# EAGLE library part IR2110 (library CaliBeta-Transistores)
Driver para MOSFET de potencia 500V-2A Datasheet <https://drive.google.com/file/d/0BzaKjvCRihgbWVVDbEhIc0hnSkE/view>
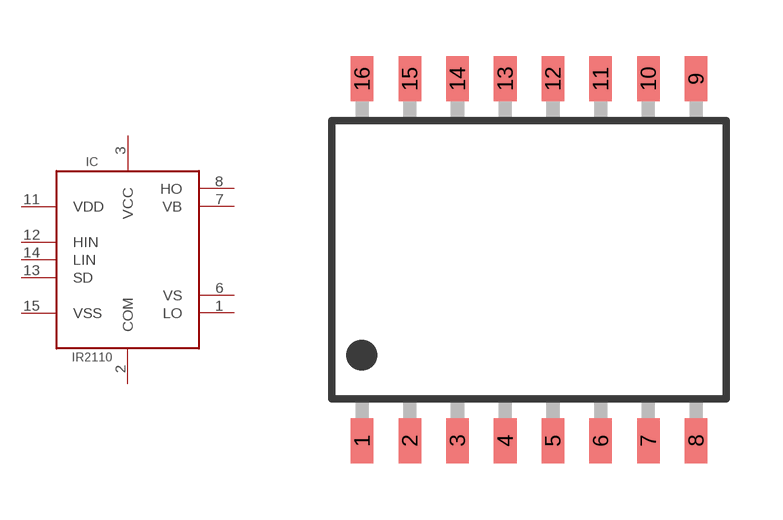
[diagram p0: symbol with the pads of SOIC-16L; footprint SOIC-16L]

Designator prefix IC

## IR2110S  [SOIC-16L]
1  LO
2  COM  pwr
3  VCC  pwr
6  VS
7  VB
8  HO
11  VDD  pwr
12  HIN
13  SD
14  LIN
15  VSS  pwr

## Footprint SOIC-16L (pad centres in mm)
smd 0.6 x 1.2: 1 -4.445,-4.82; 2 -3.175,-4.82; 3 -1.905,-4.82; 4 -0.635,-4.82; 5 0.635,-4.82; 6 1.905,-4.82; 7 3.175,-4.82; 8 4.445,-4.82; 9 4.445,4.82; 10 3.175,4.82; 11 1.905,4.82; 12 0.635,4.82; 13 -0.635,4.82; 14 -1.905,4.82; 15 -3.175,4.82; 16 -4.445,4.82